# EAGLE library part SHIFT_REGISTER_TPIC6C595 (library ARC_Clock)
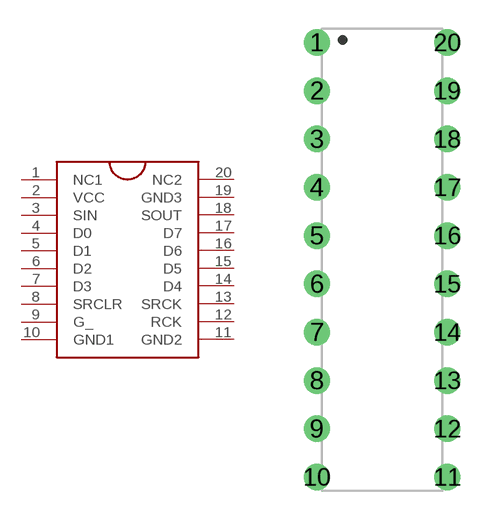
[diagram p0: symbol with the pads of SHIFT_REGISTER; footprint SHIFT_REGISTER]

Designator prefix -

## SHIFT_REGISTER_TPIC6C595  [SHIFT_REGISTER]
1  NC1
2  VCC
3  SIN
4  D0
5  D1
6  D2
7  D3
8  SRCLR
9  G_
10  GND1
11  GND2
12  RCK
13  SRCK
14  D4
15  D5
16  D6
17  D7
18  SOUT
19  GND3
20  NC2

## Footprint SHIFT_REGISTER (pad centres in mm)
20-DIP, 2.54 mm (0.10 in) pitch, 7.62 mm (0.30 in) span, 25.91 X 6.60 X 5.33 mm body 20-pin DIP package with 2.54 mm (0.10 in) pitch, 7.62 mm (0.30 in) span with body size 25.91 X 6.60 X 5.33 mm
drill 0.788 pad 1.388: 1 -3.429,11.43; 2 -3.429,8.89; 3 -3.429,6.35; 4 -3.429,3.81; 5 -3.429,1.27; 6 -3.429,-1.27; 7 -3.429,-3.81; 8 -3.429,-6.35; 9 -3.429,-8.89; 10 -3.429,-11.43; 11 3.429,-11.43; 12 3.429,-8.89; 13 3.429,-6.35; 14 3.429,-3.81; 15 3.429,-1.27; 16 3.429,1.27; 17 3.429,3.81; 18 3.429,6.35; 19 3.429,8.89; 20 3.429,11.43